# EAGLE library part JTAG (library kmod-connectors)
JTAG connector, as on the Digilent Nexys3
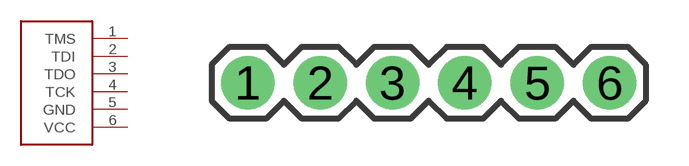
[diagram p4: symbol with the pads of 1X06; footprint 1X06]

Designator prefix -

## JTAGDIGILENT  [1X06]
1  TMS
2  TDI
3  TDO
4  TCK
5  GND
6  VCC

## Footprint 1X06 (pad centres in mm)
drill 1.016 pad 1.88: 1 0,0; 2 2.54,0; 3 5.08,0; 4 7.62,0; 5 10.16,0; 6 12.7,0